# Altium footprint library MPU-6050.PcbLib: 1 footprints
Each footprint in its own frame and in the unit in brackets; x right, y up, seen from the top. Pads: shape width x height; smd on the part's side, far side on the other; paste and mask are expansions set on the pad; w line width, h text height; cw(c..) or ccw(c..) is an arc to the next point about the centre after c.
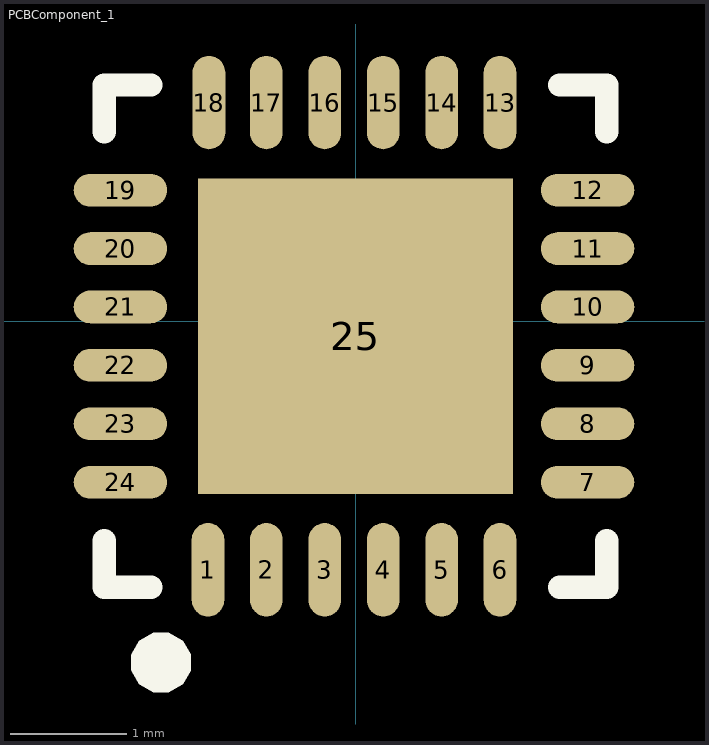
[diagram p0: the footprint, top view; thin cyan lines are the x and y axes]

## PCBComponent_1 [mm]
pads (25):
  oval 0.28x0.8 smd paste+0 mask+0.102: 1(-1.263,-2.127) 2(-0.763,-2.127) 3(-0.263,-2.127) 4(0.237,-2.127) 5(0.737,-2.127) 6(1.237,-2.127) 13(1.237,1.873) 14(0.737,1.873) 15(0.237,1.873) 16(-0.263,1.873) 17(-0.763,1.873) 18(-1.255,1.873)
  oval 0.8x0.28 smd paste+0 mask+0.102: 7(1.987,-1.377) 8(1.987,-0.877) 9(1.987,-0.377) 10(1.987,0.123) 11(1.987,0.623) 12(1.987,1.123) 19(-2.013,1.123) 20(-2.013,0.623) 21(-2.013,0.123) 22(-2.013,-0.377) 23(-2.013,-0.877) 24(-2.013,-1.377)
  rect 2.7x2.7 smd paste+0 mask+0.102: 25(0,-0.127)
Top Overlay:
  region: -1.41,-2.92 -1.411,-2.852 -1.479,-2.734 -1.597,-2.667 -1.733,-2.667 -1.851,-2.735 -1.918,-2.853 -1.918,-2.989 -1.851,-3.107 -1.733,-3.175 -1.597,-3.175 -1.479,-3.108 -1.411,-2.99 -1.41,-2.922
  lines w0.2: -2.15,-1.878 -2.15,-2.278 -1.75,-2.278 ; -2.15,1.623 -2.15,2.023 -1.75,2.023 ; 1.75,-2.278 2.15,-2.278 2.15,-1.878 ; 1.75,2.023 2.15,2.023 2.15,1.623
Mechanical 15:
  lines w0.003: -0.013,0.111 -0.013,0.111